# Altium integrated library my_integrated_lib.IntLib: 9 symbols
Pins are listed as number, name and electrical type; pins without a type are passive.

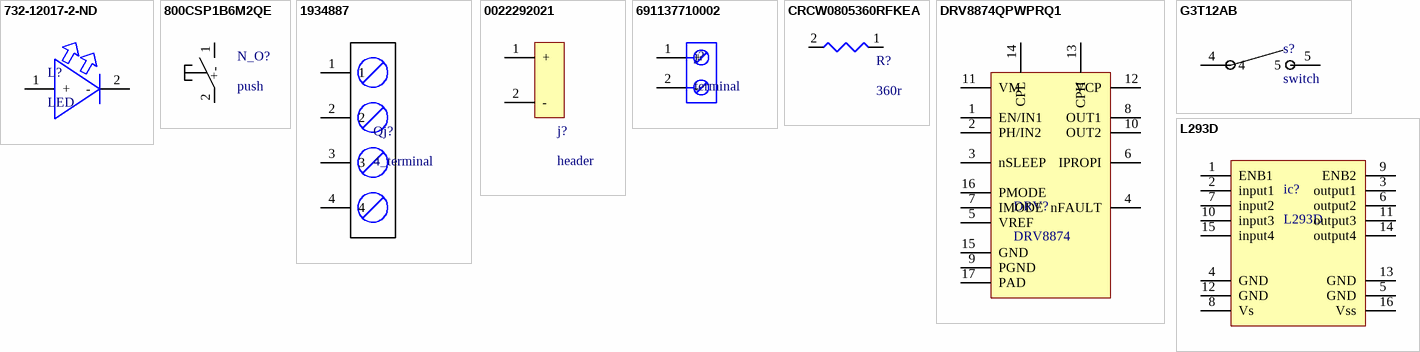
[diagram p0: symbols 732-12017-2-ND to L293D]

## 732-12017-2-ND
designator L?, comment LED
Single Color LED, Cool White, 2.6mm; Manufacturer: Cree; Manufacturer Part Number: JB3030AWT-P-H65EA0000-N0000001; Supplier: Digikey; Supplier Part Number: 2138-JB3030AWT-P-H65EA0000-N0000001CT-ND; RoHS: Yes; Category: LEDs; Stock: 65459; Pricing: 1=0.1, 10=0.085, 100=0.0753, 500=0.06218, 1000=0.05563 (USD)
footprint LED
pins: 1 +, 2 -

## 800CSP1B6M2QE
designator N_O?, comment push
Pushbutton Switch; Manufacturer: E-Switch; Manufacturer Part Number: 800CSP1B6M2QE; Supplier: Digikey; Supplier Part Number: EG5543-ND; RoHS: No; Category: Pushbutton Switches; Stock: 192; Pricing: 1=2.89, 10=2.582, 25=2.446, 50=2.3596, 100=2.2361, 270=2.175 (USD); Reach SVHC Compliant: Yes; ComponentLink1URL: https://www.e-switch.com/system/asset/product_line/data_sheet/214/800C.pdf?src-supplier=Digikey; ComponentLink1Description: https://www.e-switch.com/system/asset/product_line/data_sheet/214/800C.pdf?src-supplier=Digikey
footprint PUSH_BUTTON
pins: 1 -, 2 +

## 1934887
designator Qj?, comment 4_terminal
Barrier Strip Terminal Block, 12A, 1.5mm2, 1 Row(s), 1 Deck(s); Manufacturer: Phoenix Contact; Manufacturer Part Number: 1934887; Fastening Method: SCREW; Number of Decks: 1; Number of Ways: 4; Voltage Rating: 250V; Wire/Cable Gauge: 14AWG; Safety Approval: UL; Supplier: Rs; Supplier Part Number: 4680931; RoHS: Yes; Category: Terminal Blocks; Stock: 125; Pricing: 5=1.204, 125=1.172, 375=1.14, 1000=1.108, 2000=1.08 (GBP); Mounting Technology: Board; Terminal and Terminal Block Type: BARRIER STRIP TERMINAL BLOCK; Number of Rows: 1; Current Rating: 12A; Wire Cross Section: 1.5mm2; RoHS Compliant: Yes; Reach SVHC Compliant: Yes; ComponentLink1URL: https://www.phoenixcontact.com:443/online/portal/us?uri=pxc-oc-itemdetail%3apid%3d1934887&library=usen&pcck=P-11-02-11&tab=1&src-supplier=IHS+Markit; ComponentLink1Description: https://www.phoenixcontact.com:443/online/portal/us?uri=pxc-oc-itemdetail%3apid%3d1934887&library=usen&pcck=P-11-02-11&tab=1&src-supplier=IHS+Markit; ComponentLink2URL: https://datasheet.ciiva.com/16047/1934887-16047240.pdf?src-supplier=Onlinecomponents.com; ComponentLink2Description: https://datasheet.ciiva.com/16047/1934887-16047240.pdf?src-supplier=Onlinecomponents.com; ComponentLink3URL: https://datasheet.ciiva.com/15169/getdatasheetpartid-177849-15169637.pdf?src-supplier=Verical; ComponentLink3Description: https://datasheet.ciiva.com/15169/getdatasheetpartid-177849-15169637.pdf?src-supplier=Verical; ComponentLink4URL: https://datasheet.ciiva.com/795/combiconcompact5-0mmseries-795415.pdf?src-supplier=Digikey; ComponentLink4Description: https://datasheet.ciiva.com/795/combiconcompact5-0mmseries-795415.pdf?src-supplier=Digikey; ComponentLink5URL: https://datasheet.ciiva.com/14608/70054929-14608235.pdf?src-supplier=Allied+Electronics; ComponentLink5Description: https://datasheet.ciiva.com/14608/70054929-14608235.pdf?src-supplier=Allied+Electronics; ComponentLink6URL: https://datasheet.ciiva.com/29224/744154-da-01-en-printklemme-pt-1-5-4-pvh-5-0-29224875.pdf?src-supplier=Conrad; ComponentLink6Description: https://datasheet.ciiva.com/29224/744154-da-01-en-printklemme-pt-1-5-4-pvh-5-0-29224875.pdf?src-supplier=Conrad
footprint 4 position terminal block
pins: 1, 2, 3, 4

## 0022292021
designator j?, comment header
Board Connector, 2 Contact(s), 1 Row(s), Male, Straight, Solder Terminal; Manufacturer: Molex; Manufacturer Part Number: 0022292021; Supplier: Mouser; Supplier Part Number: 538-22-29-2021; RoHS: No; Stock: 4585; Pricing: 1=0.46, 10=0.314, 50=0.314, 100=0.264, 1000=0.252, 10000=0.201 (USD); category: connectors
footprint HDR1X2
pins: 1 +, 2 -

## 691137710002
designator j?, comment terminal
Barrier Strip Terminal Block; Manufacturer: Wurth Electronics; Manufacturer Part Number: 691137710002; Supplier: Rs; Supplier Part Number: 1769908; RoHS: No; Category: Terminal Blocks; Stock: 355; Pricing: 500=0.218, 1000=0.202, 2500=0.189 (GBP); RoHS Compliant: Yes; ComponentLink1URL: https://datasheet.ciiva.com:443/pdfs/VipMasterIC/IC/MIDC/MIDC-S-A0005074262/MIDC-S-A0004711666-1.pdf?src-supplier=IHS+Markit; ComponentLink1Description: https://datasheet.ciiva.com:443/pdfs/VipMasterIC/IC/MIDC/MIDC-S-A0005074262/MIDC-S-A0004711666-1.pdf?src-supplier=IHS+Markit; ComponentLink2URL: https://katalog.we-online.de/em/datasheet/691137710002.pdf?src-supplier=Digikey; ComponentLink2Description: https://katalog.we-online.de/em/datasheet/691137710002.pdf?src-supplier=Digikey
footprint terminal
pins: 1 +, 2 -

## CRCW0805360RFKEA
designator R?, comment 360r
Fixed Resistor, Metal Glaze/thick Film, 0.125W, 360ohm, 150V, 1% +/-Tol, 100ppm/Cel, Surface Mount, 0805; Manufacturer: Vishay; Manufacturer Part Number: CRCW0805360RFKEA; Power: 125mW; Rated Temperature: 70°C; Temperature Coefficient: 100ppm/°C; Package Height: 0.45mm; Package Length: 2mm; Package Width: 1.25mm; Reference Standard: AEC-Q200; Supplier: Mouser; Supplier Part Number: 71-CRCW0805360RFKEA; RoHS: Yes; Category: Chip SMD Resistors; Stock: 921; Pricing: 1=0.1, 10=0.025, 50=0.025, 100=0.015, 1000=0.012, 10000=0.008 (USD); Mounting Technology: Surface Mount; Pins: 2; Package Shape: Rectangular; Case/Package: 0805; Terminal Finish: Nickel; Min Operating Temperature: -55°C; Max Operating Temperature: 155°C; Tolerance: 1%; JESD-609 Code: e3; Resistor Type: FIXED RESISTOR; Construction: Chip; Package Style: SMTMeter; Packaging: Tape and Reel; Value: 360R; Technology: METAL GLAZE/THICK FILM; Termination: Wraparound; Working Voltage: 150V; Reach SVHC Compliant: Yes; RoHS Compliant: Yes; ComponentLink1URL: https://datasheet.ciiva.com:443/pdfs/VipMasterIC/IC/VISH/VISH-S-A0007266705/VISH-S-A0007266705-1.pdf?src-supplier=IHS+Markit; ComponentLink1Description: https://datasheet.ciiva.com:443/pdfs/VipMasterIC/IC/VISH/VISH-S-A0007266705/VISH-S-A0007266705-1.pdf?src-supplier=IHS+Markit; ComponentLink2URL: https://datasheet.ciiva.com/2467/dcrcwe3-2467773.pdf?src-supplier=Digikey; ComponentLink2Description: https://datasheet.ciiva.com/2467/dcrcwe3-2467773.pdf?src-supplier=Digikey
footprint R0805
pins: 1, 2

## DRV8874QPWPRQ1
designator DRV?, comment DRV8874
Brush DC Motor Controller, 6A, PDSO16; Manufacturer: Texas Instruments; Manufacturer Part Number: DRV8874QPWPRQ1; Supplier: Digikey; Supplier Part Number: 296-DRV8874QPWPRQ1DKR-ND; RoHS: Yes; Category: Integrated Circuits (ICs); Pricing: 1=2.89, 10=2.596, 25=2.4544, 100=2.1271, 250=2.018, 500=1.81072, 1000=1.52712 (USD); RoHS Compliant: Yes; ComponentLink1URL: https://www.ti.com:443/lit/ds/symlink/drv8874-q1.pdf?src-supplier=IHS+Markit; ComponentLink1Description: https://www.ti.com:443/lit/ds/symlink/drv8874-q1.pdf?src-supplier=IHS+Markit
footprint DRV8874
footprint DRV8874
pins: 1 EN/IN1, 2 PH/IN2, 3 nSLEEP, 4 nFAULT, 5 VREF, 6 IPROPI, 7 IMODE, 8 OUT1, 9 PGND, 10 OUT2, 11 VM, 12 VCP, 13 CPH, 14 CPL, 15 GND, 16 PMODE, 17 PAD

## G3T12AB
designator s?, comment switch
Toggle Switch, SPDT, On-on, Horizontal, 9 PCB Hole Cnt, Solder Terminal, Toggle Column Actuator, Surface Mount-straight; Manufacturer: NKK Switches; Manufacturer Part Number: G3T12AB; Manufacturer Series: G3; Actuator Material: Polyphenylene; End Contact Plating: Gold; End Contact Material: Bronze; Actuator Angle: 28°; Contact DC Max Power Rating R Load: 0.4VA@28VDC; Contact Resistance: 0.08mR; Dielectric Withstand Volts: 500VACV; Electrical Life: 50000Cycles; Insulation Resistance: 500MR; PCB Hole Count: 9; Solderability: WAVE; Actuator Length: 0.15inch; Body Breadth: 5.0038inch; Body Height: 12.9032mm; Body Length or Diameter: 10.9982mm; Bushing Diameter: 0.157inch; Bushing Length: 0.059inch; Sealing: EPOXY; Supplier: Digikey; Supplier Part Number: 360-3268-ND; RoHS: Yes; Category: Toggle Switches; Stock: 11404; Pricing: 1=5.24, 10=4.519, 25=4.2616, 40=4.13475, 80=3.95475, 230=3.69478, 440=3.54341, 945=3.3727 (USD); Mounting Technology: Surface Mount; Contact Material: Bronze; Center Contact Plating: Gold; Housing Material: Polyphenylene; Insulation Material: Polyphenylene; Terminal Finish: Gold; Terminal Material: Bronze; Min Operating Temperature: -25°C; Max Operating Temperature: 70°C; JESD-609 Code: e4; Actuator Type: Toggle; Contact Function: On-On; Switch Action: HORIZONTAL; Switch Function: SPDT; Switch Type: Toggle; Termination: Solder; Terminal Length: 0inch; Reach SVHC Compliant: Yes; RoHS Compliant: Yes; ComponentLink1URL: https://datasheet.ciiva.com:443/pdfs/VipMasterIC/IC/NKSW/NKSWS00071/NKSWS00071-1.pdf?src-supplier=IHS+Markit; ComponentLink1Description: https://datasheet.ciiva.com:443/pdfs/VipMasterIC/IC/NKSW/NKSWS00071/NKSWS00071-1.pdf?src-supplier=IHS+Markit; ComponentLink2URL: https://datasheet.ciiva.com/28398/1783573-28398363.pdf?src-supplier=Element14; ComponentLink2Description: https://datasheet.ciiva.com/28398/1783573-28398363.pdf?src-supplier=Element14
footprint Push button
pins: 4, 5

## L293D
designator ic?
Half Bridge Based Peripheral Driver, 1.2A, PDIP16; Manufacturer: STMicroelectronics; Package Body Material: Plastic; Built-in Protections: TRANSIENT,THERMAL; Output Polarity: True; Input Characteristics: STANDARD; Channels: 2; Output Characteristics: 3-STATE; Output Current Flow Direction: SOURCE AND SINK; Supply Voltage1-Max: 36V; Supply Voltage1-Min: 4.5V; Supply Voltage1-Nom: 24V; Nominal Supply Voltage: 5V; Surface Mount: No; Qualification Status: Not Qualified; Supplier: Future Electronics; Supplier Part Number: 2116481; Manufacturer Part Number: L293D; RoHS: Yes; Category: Motor Drivers; Stock: 1325; Pricing: 25=4.14, 100=4.02, 375=3.9, 625=3.85, 1250=3.71 (USD); Case/Package: DIP; Pins: 16; Package Shape: Rectangular; Terminal Finish: Tin; JESD-609 Code: e3; Interface IC Type: HALF BRIDGE BASED PERIPHERAL DRIVER; JESD-30 Code: R-PDIP-T16; Output Peak Current Limit-Nom: 1.2A; Package Style: IN-LINEMeter; Max Supply Voltage: 36V; Min Supply Voltage: 4.5V; Terminal Form: Through Hole; Terminal Position: DUAL; Length: 20mm; Width: 7.62mm; Height - Seated (Max): 5.1mm; Terminal Pitch: 2.54mm; RoHS Compliant: Yes; Reach SVHC Compliant: No; ComponentLink1URL: https://datasheet.ciiva.com:443/pdfs/VipMasterIC/IC/SGST/SGSTS19357/SGSTS19357-1.pdf?src-supplier=IHS+Markit; ComponentLink1Description: https://datasheet.ciiva.com:443/pdfs/VipMasterIC/IC/SGST/SGSTS19357/SGSTS19357-1.pdf?src-supplier=IHS+Markit; ComponentLink2URL: https://datasheet.ciiva.com/14150/ocl293d-647107-dat-en-14150297.pdf?src-supplier=Distrelec; ComponentLink2Description: https://datasheet.ciiva.com/14150/ocl293d-647107-dat-en-14150297.pdf?src-supplier=Distrelec; ComponentLink3URL: https://datasheet.ciiva.com/29307/156134-da-01-en-4-kanal-treiber-ic-l293d-stm-29307000.pdf?src-supplier=Conrad; ComponentLink3Description: https://datasheet.ciiva.com/29307/156134-da-01-en-4-kanal-treiber-ic-l293d-stm-29307000.pdf?src-supplier=Conrad; ComponentLink4URL: https://datasheet.ciiva.com/1955/cd00000059-1955400.pdf?src-supplier=Digikey; ComponentLink4Description: https://datasheet.ciiva.com/1955/cd00000059-1955400.pdf?src-supplier=Digikey; ComponentLink5URL: https://datasheet.ciiva.com/4895/cd00000059-4895945.pdf?src-supplier=Mouser; ComponentLink5Description: https://datasheet.ciiva.com/4895/cd00000059-4895945.pdf?src-supplier=Mouser; ComponentLink6URL: https://datasheet.ciiva.com/16458/cd00000059-16458220.pdf?src-supplier=Future+Electronics; ComponentLink6Description: https://datasheet.ciiva.com/16458/cd00000059-16458220.pdf?src-supplier=Future+Electronics
footprint L293D
pins: 1 ENB1, 2 input1, 3 output1, 4 GND, 5 GND, 6 output2, 7 input2, 8 Vs, 9 ENB2, 10 input3, 11 output3, 12 GND, 13 GND, 14 output4, 15 input4, 16 Vss